# EAGLE library part M24M02-DRMN6TP (library ck_custom)
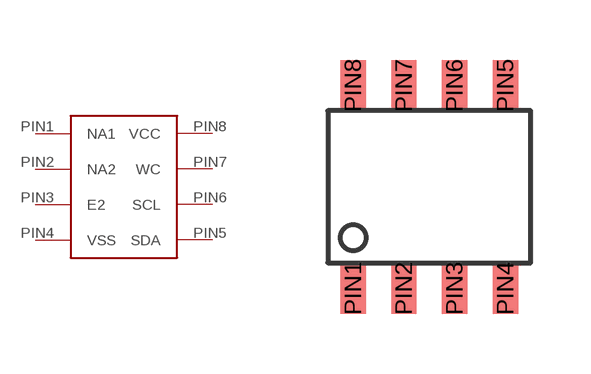
[diagram p6: symbol with the pads of SOIC8; footprint SOIC8]

Designator prefix -

## M24M02-DRMN6TP  [SOIC8]
PIN1  NA1
PIN2  NA2
PIN3  E2
PIN4  VSS
PIN5  SDA
PIN6  SCL
PIN7  WC
PIN8  VCC

## Footprint SOIC8 (pad centres in mm)
SOIC8 package type.
smd 0.635 x 1.27: PIN1 0.635,-0.635; PIN2 1.905,-0.635; PIN3 3.175,-0.635; PIN4 4.445,-0.635; PIN5 4.445,4.445; PIN6 3.175,4.445; PIN7 1.905,4.445; PIN8 0.635,4.445